# Altium integrated library Connectors - Military.IntLib: 2 symbols
Pins are listed as number, name and electrical type; pins without a type are passive.

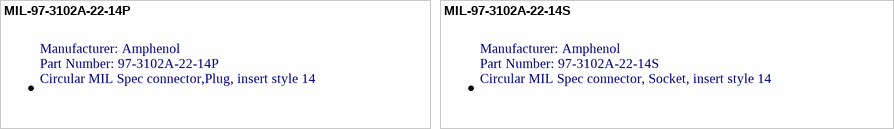
[diagram p0: symbols MIL-97-3102A-22-14P to MIL-97-3102A-22-14S]

## MIL-97-3102A-22-14P
designator ZJ?, comment Manufacturer: Amphenol  (hidden comment: 97-3102A-22-14P)  (mechanical)
Circular MIL Spec connector,Plug, insert style 14; Mates with (Wire housing): 97-3102A-22-14S; Arrangement: 22-1; Mates with (PCB): N/A; Mounting Type: Panel Mount; Package Reference: N/A; Pins: 19; Pitch: N/A; Rows: N/A; ComponentLink1URL: canopus\\Datasheets\Interconnects\MIL\97Series.pdf; ComponentLink1Description: Datasheet; Gender: Plug; Supplier 1: Newark; Supplier Part Number 1: 93F1230; Supplier 2: Allied; Supplier Part Number 2: 70108246; Supplier 3: Digi-Key; Supplier Part Number 3: 97-3102A-22-14P-ND; PackageDescription: Circular MIL Spec connector, 97 series,Plug, insert style 14; Part Number: 97-3102A-22-14P
text: .

## MIL-97-3102A-22-14S
designator ZJ?, comment Manufacturer: Amphenol  (hidden comment: 97-3102A-22-14S)  (mechanical)
Circular MIL Spec connector, Socket, insert style 14; Mates with (Wire housing): 97-3102A-22-14P; Arrangement: 22-1; Mates with (PCB): N/A; Mounting Type: Panel Mount; Package Reference: N/A; Pins: 19; Pitch: N/A; Rows: N/A; ComponentLink1URL: canopus\\Datasheets\Interconnects\MIL\97Series.pdf; ComponentLink1Description: Datasheet; Gender: Socket; Supplier 1: Newark; Supplier Part Number 1: 93F1216; Supplier 2: Allied; Supplier Part Number 2: 70108247; Supplier 3: Digi-Key; Supplier Part Number 3: 97-3102A-22-14S-ND; Supplier 4: Mouser; Supplier Part Number 4: 654-97-3102A22-14S; PackageDescription: Circular MIL Spec connector, Socket, insert style 14; Part Number: 97-3102A-22-14S
text: .